# EAGLE library part USB6B1 (library fablab)
USB device protection IC ST
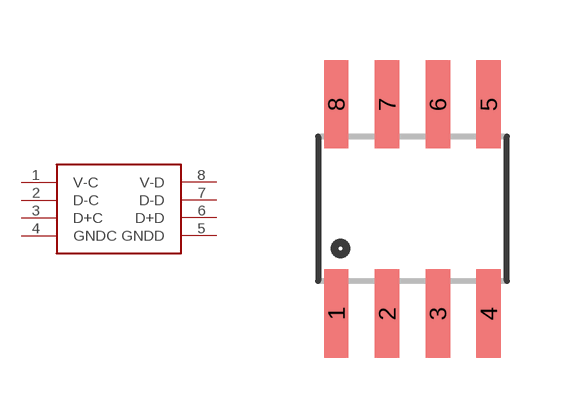
[diagram p9: symbol with the pads of SO08; footprint SO08]

Designator prefix U

## USB6B1  [SO08]
1  V-C
2  D-C
3  D+C
4  GNDC
5  GNDD
6  D+D
7  D-D
8  V-D

## Footprint SO08 (pad centres in mm)
Small Outline Package Fits JEDEC packages (narrow SOIC-8)
smd 0.61 x 2.21: 1 -1.905,-2.616; 2 -0.635,-2.616; 3 0.635,-2.616; 4 1.905,-2.616; 5 1.905,2.616; 6 0.635,2.616; 7 -0.635,2.616; 8 -1.905,2.616